# Altium footprint library Resistor.PcbLib: 37 footprints (part 3 of 3)
Each footprint in its own frame and in the unit in brackets; x right, y up, seen from the top. Pads: shape width x height; smd on the part's side, far side on the other; paste and mask are expansions set on the pad; w line width, h text height; cw(c..) or ccw(c..) is an arc to the next point about the centre after c.
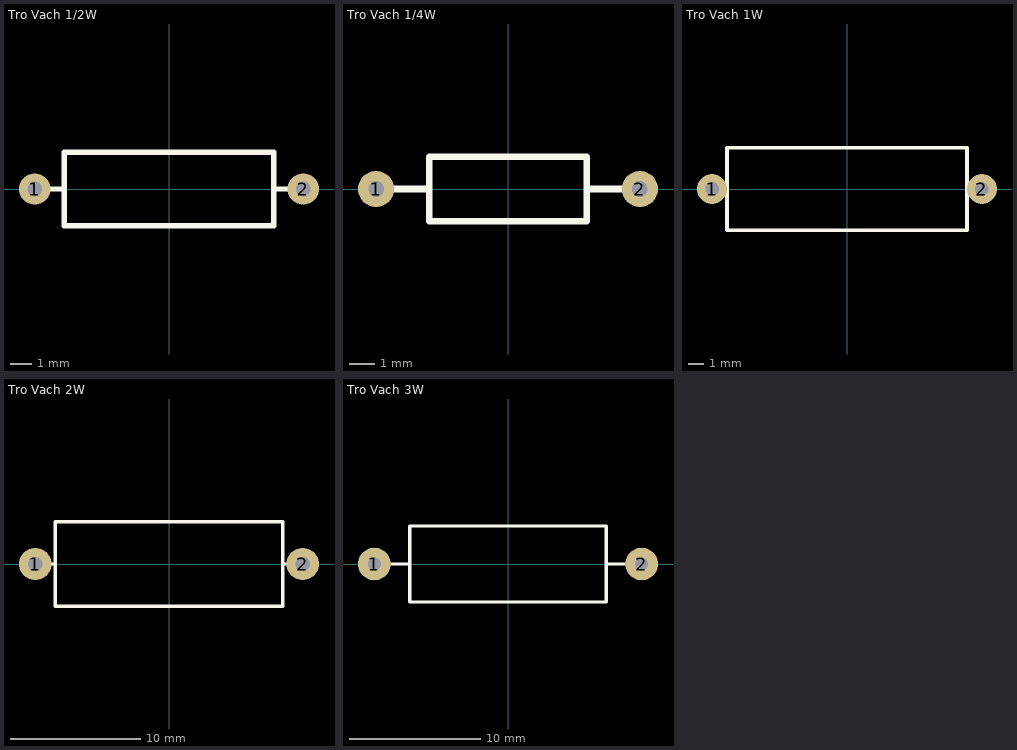
[diagram p2: the footprints below, top view; thin cyan lines are the x and y axes]

## Tro Vach 1/2W [mm]
pads (2):
  round 1.5 hole 0.7: 1(-6.4,0) 2(6.4,0)
Top Overlay:
  lines w0.254: -5.842,0 -5.08,0 ; 5.08,0 5.842,0 ; -5,-1.75 -5,1.75 5,1.75 5,-1.75 -5,-1.75
3D body "Resistro_0.5w.STEP": height 3.5, standoff -3, extent -6.62,-1.75 6.62,1.75

## Tro Vach 1/4W [mm]
pads (2):
  round 1.4 hole 0.6: 1(-5.1,0) 2(5.1,0)
Top Overlay:
  lines w0.254: -4.394,0 -3.073,0 ; 3.099,0 4.42,0 ; -3.048,-1.25 3.048,-1.25 3.048,1.25 -3.048,1.25 -3.048,-1.25
3D body "Resistor 0.25W-1.step": height 2.41, standoff -2, extent -5.38,-1.2 5.38,1.2

## Tro Vach 1W [mm]
pads (2):
  round 2 hole 0.9: 1(-9,0) 2(9,0)
Top Overlay:
  lines w0.254: -9.144,0 -8.001,0 ; 8.001,0 9.144,0 ; -8,-2.75 -8,2.75 8,2.75 8,-2.75 -8,-2.75
3D body "Resitor 1W-1.step": height 6.5, standoff -4, extent -9.29,-2.996 9.29,2.996

## Tro Vach 2W [mm]
pads (2):
  round 2.5 hole 1.1: 1(-10.3,0) 2(10.3,0)
Top Overlay:
  lines w0.254: -9.271,0 -8.763,0 ; 8.763,0 9.144,0 ; -8.75,-3.25 -8.75,3.25 8.75,3.25 8.75,-3.25 -8.75,-3.25
3D body "Resistor_2W_3.STEP": height 5.5, standoff -4.54, extent -10.56,-2.501 10.56,2.501

## Tro Vach 3W [mm]
pads (2):
  round 2.5 hole 1: 1(-10.2,0) 2(10.2,0)
Top Overlay:
  lines w0.254: -9.017,0 -7.493,0 ; 7.62,0 9.017,0 ; -7.5,-2.9 7.5,-2.9 7.5,2.9 -7.5,2.9 -7.5,-2.9
3D body "Resistor 3w.STEP": height 7.5, standoff -1.58, extent -10.56,-2.5 10.56,2.5